# Altium schematic symbol library REG1117-5.SchLib: 1 symbol
Pins are listed as number, name and electrical type; pins without a type are passive.

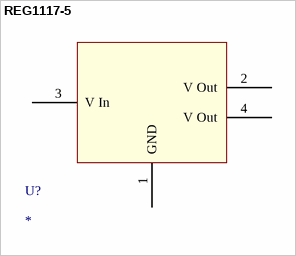
[diagram p0: symbol REG1117-5]

## REG1117-5
designator U?
REG1117-5, Voltage Regulator, 5V Out, 800mA
footprint SOT230P710X180-4N (SOT223, 4-Leads, Body 6.7x7.5mm (max), Pitch 2.30mm, IPC Medium Density)
pins: 1 GND, 2 V Out, 3 V In, 4 V Out